# Altium footprint library CHIP_2917_KEMET_T495X.PcbLib: 1 footprints
Each footprint in its own frame and in the unit in brackets; x right, y up, seen from the top. Pads: shape width x height; smd on the part's side, far side on the other; paste and mask are expansions set on the pad; w line width, h text height; cw(c..) or ccw(c..) is an arc to the next point about the centre after c.
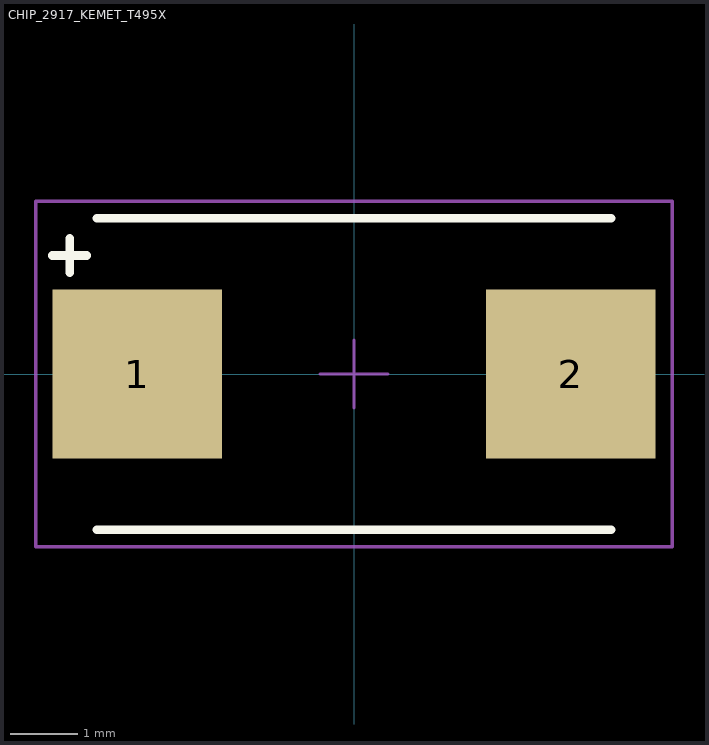
[diagram p0: the footprint, top view; thin cyan lines are the x and y axes]

## CHIP_2917_KEMET_T495X [mm] "2917 footprint for KEMET T495X"
pads (2):
  rect 2.5x2.5 smd: 1(-3.2,0) 2(3.2,0)
Top Overlay:
  lines w0.127: -4.454,1.75 -3.946,1.75 ; -4.2,1.496 -4.2,2.004 ; -3.8,-2.3 3.8,-2.3 ; -3.8,2.3 3.8,2.3
Mechanical 15:
  lines w0.05: -0.5,0 0.5,0 ; 0,-0.5 0,0.5 ; -4.699,-2.55 -4.699,2.55 4.699,2.55 4.699,-2.55 -4.699,-2.55
3D body "KEMET_T495.step": height 3.11, standoff 0, extent -3.8,-2.3 3.8,2.3